# EAGLE library part TXU0*04 (library BW-Active)
4-pin unidirectional level shifter
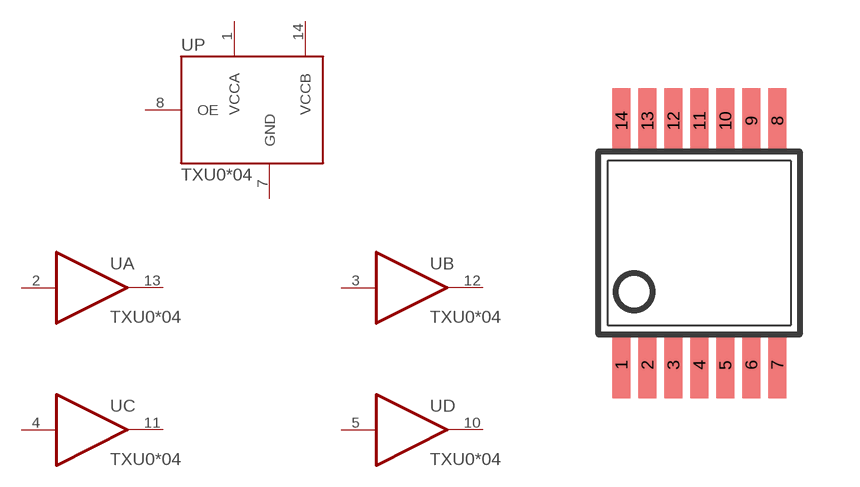
[diagram p23: symbol with the pads of TSSOP14; footprint TSSOP14]

Designator prefix U; gates P=TXU0*04-COMMON A=BUFFER B=BUFFER C=BUFFER D=BUFFER

## TXU0104-1  [TSSOP14]
1  P:VCCA
2  A:I
3  B:I
4  C:I
5  D:I
7  P:GND
8  P:OE
10  D:O  out
11  C:O  out
12  B:O  out
13  A:O  out
14  P:VCCB

## TXU0304-3  [TSSOP14]
1  P:VCCA
2  A:I
3  B:I
4  C:I
5  D:O  out
7  P:GND
8  P:OE
10  D:I
11  C:O  out
12  B:O  out
13  A:O  out
14  P:VCCB

## Footprint TSSOP14 (pad centres in mm)
Thin Shrink Small Outline Plastic 14 MAX3223-MAX3243.pdf
smd 0.45 x 1.65: 1 -1.95,-3.05; 2 -1.3,-3.05; 3 -0.65,-3.05; 4 0,-3.05; 5 0.65,-3.05; 6 1.3,-3.05; 7 1.95,-3.05; 8 1.95,3.05; 9 1.3,3.05; 10 0.65,3.05; 11 0,3.05; 12 -0.65,3.05; 13 -1.3,3.05; 14 -1.95,3.05